# Altium schematic symbol library SU9V-07010.SchLib: 1 symbol
Pins are listed as number, name and electrical type; pins without a type are passive.

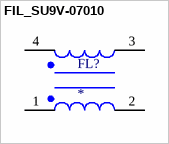
[diagram p0: symbol FIL_SU9V-07010]

## FIL_SU9V-07010
designator FL?
1 mH @ 1 kHz 2 Line Common Mode Choke Through Hole 700mA DCR 600mOhm; MF: Kemet; MP: SU9V-07010; SnapEDA_Link: https://www.snapeda.com/parts/SU9V-07010/Kemet/view-part/?ref=snap; Package: Vertical-4 Kemet; Value: *; Check_prices: https://www.snapeda.com/parts/SU9V-07010/Kemet/view-part/?ref=eda
footprint FIL_SU9V-07010
pins: 1, 2, 3, 4